# Altium schematic symbol library HARD.SchLib: 3 symbols
Pins are listed as number, name and electrical type; pins without a type are passive.

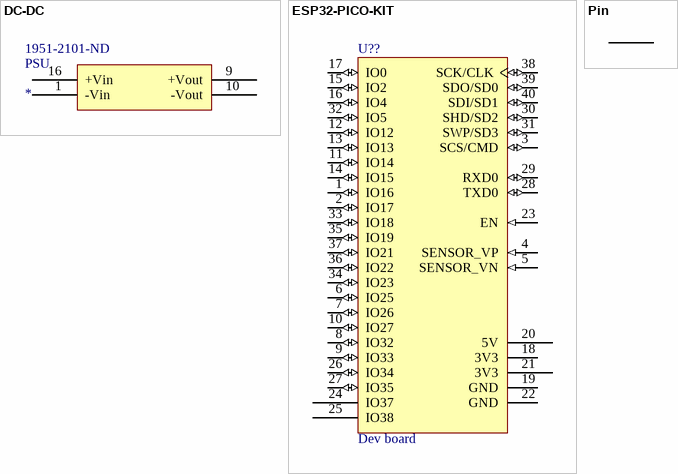
[diagram p0: symbols DC-DC to Pin]

## DC-DC
designator PSU  Supplier Part Number 1: 1951-2101-ND
Supplier 1: Digi-Key
footprint JWE06
pins: 1 -Vin (power), 9 +Vout (power), 10 -Vout (power), 16 +Vin (power)

## ESP32-PICO-KIT
designator U??, comment Dev board
ESP32 dev board; Manufacturer: Olimex; Manufacturer Part Number 1: ESP-WROOM-32; Package Description: 38-Pin Surface Mount Device, Body 18 x 25.5 mm, Pitch 1.27 mm; Manufacturer URL: https://www.olimex.com; RoHSCompliant: false; Mounting Technology: SurfaceMount; Datasheet Version: Rev. 2.1, 09/2017; Datasheet URL: http://www.espressif.com/sites/default/files/documentation/esp-wroom-32_datasheet_en.pdf; Package Reference: ESP-WROOM-32; Manufacturer 1: Olimex
footprint ESP32-PICO-KIT
pins: 1 IO16 (io) "GPIO16, HS1_DATA4, U2RXD, EMAC_CLK_OUT", 2 IO17 (io) "GPIO17, HS1_DATA5, U2TXD, EMAC_CLK_OUT_180", 3 SCS/CMD (io) "GPIO11, SD_CMD, SPICS0, HS1_CMD, U1RTS", 4 SENSOR_VP (in) "GPIO36, SENSOR_VP, ADC_H, ADC1_CH0, RTC_GPIO0", 5 SENSOR_VN (in) "GPIO39, SENSOR_VN, ADC1_CH3, ADC_H, RTC_GPIO3", 6 IO25 (io) "GPIO25, DAC_1, ADC2_CH8, RTC_GPIO6, EMAC_RXD0", 7 IO26 (io) "GPIO26, DAC_2, ADC2_CH9, RTC_GPIO7, EMAC_RXD1", 8 IO32 (io) "GPIO32, XTAL_32K_P (32.768 kHz crystal oscillator input), ADC1_CH4, TOUCH9, RTC_GPIO9", 9 IO33 (io) "GPIO33, XTAL_32K_N (32.768 kHz crystal oscillator output), ADC1_CH5, TOUCH8, RTC_GPIO8", 10 IO27 (io) "GPIO27, ADC2_CH7, TOUCH7, RTC_GPIO17, EMAC_RX_DV", 11 IO14 (io) "GPIO14, ADC2_CH6, TOUCH6, RTC_GPIO16, MTMS, HSPICLK, HS2_CLK, SD_CLK, EMAC_TXD2", 12 IO12 (io) "GPIO12, ADC2_CH5, TOUCH5, RTC_GPIO15, MTDI, HSPIQ, HS2_DATA2, SD_DATA2, EMAC_TXD3", 13 IO13 (io) "GPIO13, ADC2_CH4, TOUCH4, RTC_GPIO14, MTCK, HSPID, HS2_DATA3, SD_DATA3, EMAC_RX_ER", 14 IO15 (io) "GPIO15, ADC2_CH3, TOUCH3, MTDO, HSPICS0, RTC_GPIO13, HS2_CMD, SD_CMD, EMAC_RXD3", 15 IO2 (io) "GPIO2, ADC2_CH2, TOUCH2, RTC_GPIO12, HSPIWP, HS2_DATA0, SD_DATA0", 16 IO4 (io) "GPIO4, ADC2_CH0, TOUCH0, RTC_GPIO10, HSPIHD, HS2_DATA1, SD_DATA1, EMAC_TX_ER", 17 IO0 (io) "GPIO0, ADC2_CH1, TOUCH1, RTC_GPIO11, CLK_OUT1, EMAC_TX_CLK", 18 3V3 (power) "Power supply.", 19 GND (power) "Ground", 20 5V (power) "Power supply.", 21 3V3 (power) "Power supply.", 22 GND (power) "Ground", 23 EN (in) "Chip-enable signal. Active high.", 24 IO37 "GPIO37, ADC1_CH1, RTC_GPIO1", 25 IO38 "GPIO38, ADC1_CH2, RTC_GPIO2", 26 IO34 (io) "GPIO34, ADC1_CH6, RTC_GPIO4", 27 IO35 (io) "GPIO35, ADC1_CH7, RTC_GPIO5", 28 TXD0 (io) "GPIO1, U0TXD, CLK_OUT3, EMAC_RXD2", 29 RXD0 (io) "GPIO3, U0RXD, CLK_OUT2", 30 SHD/SD2 (io) "GPIO9, SD_DATA2, SPIHD, HS1_DATA2, U1RXD", 31 SWP/SD3 (io) "GPIO10, SD_DATA3, SPIWP, HS1_DATA3, U1TXD", 32 IO5 (io) "GPIO5, VSPICS0, HS1_DATA6, EMAC_RX_CLK", 33 IO18 (io) "GPIO18, VSPICLK, HS1_DATA7", 34 IO23 (io) "GPIO23, VSPID, HS1_STROBE", 35 IO19 (io) "GPIO19, VSPIQ, U0CTS, EMAC_TXD0", 36 IO22 (io) "GPIO22, VSPIWP, U0RTS, EMAC_TXD1", 37 IO21 (io) "GPIO21, VSPIHD, EMAC_TX_EN", 38 SCK/CLK (io) "GPIO6, SD_CLK, SPICLK, HS1_CLK, U1CTS", 39 SDO/SD0 (io) "GPIO7, SD_DATA0, SPIQ, HS1_DATA0, U2RTS", 40 SDI/SD1 (io) "GPIO8, SD_DATA1, SPID, HS1_DATA1, U2CTS"

## Pin
designator P?
footprint Keystone 7701 (Screw terminal)
pins: 1